# Altium footprint library LDO_Microchip_MCP1812AT-018TT_1V8.PcbLib: 3 footprints
Each footprint in its own frame and in the unit in brackets; x right, y up, seen from the top. Pads: shape width x height; smd on the part's side, far side on the other; paste and mask are expansions set on the pad; w line width, h text height; cw(c..) or ccw(c..) is an arc to the next point about the centre after c.
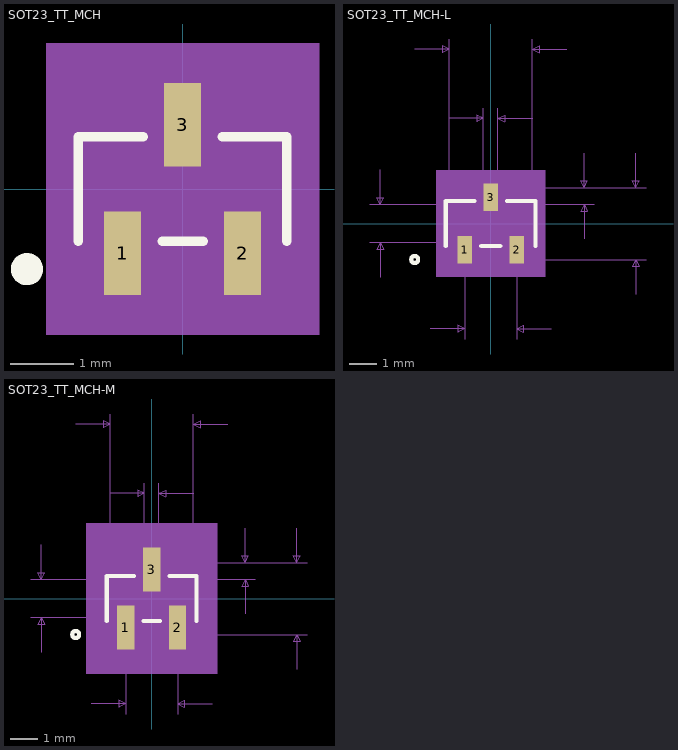
[diagram p0: the footprints below, top view; thin cyan lines are the x and y axes]

## SOT23_TT_MCH [mil]
pads (3):
  rect 23x52 smd paste+0 mask+0: 1(-37.4,-40) 2(37.4,-40) 3(0,40)
Top Overlay:
  circle w10: c-97,-50 r5
  lines w6: -65,-32.5 -65,32.5 -24.6,32.5 ; -12.8,-32.5 12.8,-32.5 ; 24.6,32.5 65,32.5 65,-32.5
Mechanical 5:
  region: -85,91 85,91 85,-91 -85,-91
Mechanical 13:
  circle w0: c-50,-17.5 r5
  lines w1: -60,-27.5 60,-27.5 60,27.5 -60,27.5 -60,-27.5 ; -47.9,-52 -47.9,-27.5 -26.9,-27.5 -26.9,-52 -47.9,-52 ; -10.5,27.5 10.5,27.5 10.5,52 -10.5,52 -10.5,27.5 ; 26.9,-52 26.9,-27.5 47.9,-27.5 47.9,-52 26.9,-52
Mechanical 15:
  region: -70,-37.5 -70,37.5 -21.5,37.5 -21.5,76 21.5,76 21.5,37.5 70,37.5 70,-37.5 58.9,-37.5 58.9,-76 -58.9,-76 -58.9,-37.5
  region: 60,-27.5 -60,-27.5 -60,27.5 60,27.5
  lines w6: -70,-37.5 -70,37.5 -21.5,37.5 -21.5,76 21.5,76 21.5,37.5 70,37.5 70,-37.5 58.9,-37.5 58.9,-76 -58.9,-76 -58.9,-37.5 -70,-37.5
3D body "SOT23_TT_MCH.step": height 44.09, standoff 0, extent -60,-52.01 60,52.01

## SOT23_TT_MCH-L [mil]
pads (3):
  rect 21x40 smd paste+0 mask+0: 1(-37.4,-38) 2(37.4,-38) 3(0,38)
Top Overlay:
  circle w6: c-110,-52 r5
  lines w6: -65,-32.5 -65,32.5 -23.6,32.5 ; -13.8,-32.5 13.8,-32.5 ; 23.6,32.5 65,32.5 65,-32.5
Mechanical 5:
  region: -79,77 79,77 79,-77 -79,-77
Mechanical 7:
  lines w1: -175,-27.5 0,-27.5 ; -175,27.5 0,27.5 ; -160,-77.5 -160,-27.5 ; -160,77.5 -160,27.5 ; -110,252 -60,252 ; -87.4,-152 -37.4,-152 ; -60.5,152 -10.5,152 ; -60,27.5 -60,267 ; -37.4,-167 -37.4,-52 ; -10.5,52 -10.5,167 ; 0,-52 225,-52 ; 0,28 150,28 ; 10.5,52 10.5,167 ; 37.4,-167 37.4,-52 ; 60,27.5 60,267 ; 60.5,152 10.5,152 ; 87.4,-152 37.4,-152 ; 110,252 60,252 ; 135,-22 135,28 ; 135,102 135,52 ; 150,52 0,52 225,52 ; 210,-102 210,-52 ; 210,102 210,52 ; -160,-27.5 -165,-37.5 -155,-37.5 -160,-27.5 ; -160,27.5 -165,37.5 -155,37.5 -160,27.5 ; -60,252 -70,257 -70,247 -60,252 ; -37.4,-152 -47.4,-147 -47.4,-157 -37.4,-152 ; -10.5,152 -20.5,157 -20.5,147 -10.5,152 ; 10.5,152 20.5,157 20.5,147 10.5,152 ; 37.4,-152 47.4,-147 47.4,-157 37.4,-152 ; 60,252 70,257 70,247 60,252 ; 135,28 130,18 140,18 135,28 ; 135,52 130,62 140,62 135,52 ; 210,-52 205,-62 215,-62 210,-52 ; 210,52 205,62 215,62 210,52
  text "Top Padstyle: RX21Y40D0T" at -300,-308 h50
  text "Bottom Padstyle: RX21Y40D0T" at -337.5,-383 h50
  text "Alt 1 Padstyle: OX60Y90D30P" at -337.5,-458 h50
  text "Alt 2 Padstyle: OX90Y60D30P" at -337.5,-533 h50
  text "0.104in/2.642mm" at 230,-12.5 h25
  text "0.024in/0.61mm" at 155,27.5 h25
  text "0.075in/1.9mm" at -81.25,-197 h25
  text "0.021in/0.533mm" at -93.75,172 h25
  text "0.12in/3.048mm" at -87.5,272 h25
  text "0.055in/1.397mm" at -367.5,-12.5 h25
Mechanical 13:
  circle w0: c-50,-17.5 r5
  lines w1: -60,-27.5 60,-27.5 60,27.5 -60,27.5 -60,-27.5 ; -47.9,-52 -47.9,-27.5 -26.9,-27.5 -26.9,-52 -47.9,-52 ; -10.5,27.5 10.5,27.5 10.5,52 -10.5,52 -10.5,27.5 ; 26.9,-52 26.9,-27.5 47.9,-27.5 47.9,-52 26.9,-52
Mechanical 15:
  region: -64,-31.5 -64,31.5 -14.5,31.5 -14.5,62 14.5,62 14.5,31.5 64,31.5 64,-31.5 51.9,-31.5 51.9,-62 -51.9,-62 -51.9,-31.5
  region: 60,-27.5 -60,-27.5 -60,27.5 60,27.5
  lines w6: -64,-31.5 -64,31.5 -14.5,31.5 -14.5,62 14.5,62 14.5,31.5 64,31.5 64,-31.5 51.9,-31.5 51.9,-62 -51.9,-62 -51.9,-31.5 -64,-31.5
3D body: height 10, standoff 0, extent 0,0 10,10

## SOT23_TT_MCH-M [mil]
pads (3):
  rect 25x64 smd paste+0 mask+0: 1(-37.4,-42) 2(37.4,-42) 3(0,42)
Top Overlay:
  circle w6: c-110,-52 r5
  lines w6: -65,-32.5 -65,32.5 -25.6,32.5 ; -11.8,-32.5 11.8,-32.5 ; 25.6,32.5 65,32.5 65,-32.5
Mechanical 5:
  region: -95,109 95,109 95,-109 -95,-109
Mechanical 7:
  lines w1: -175,-27.5 0,-27.5 ; -175,27.5 0,27.5 ; -160,-77.5 -160,-27.5 ; -160,77.5 -160,27.5 ; -110,252 -60,252 ; -87.4,-152 -37.4,-152 ; -60.5,152 -10.5,152 ; -60,27.5 -60,267 ; -37.4,-167 -37.4,-52 ; -10.5,52 -10.5,167 ; 0,-52 225,-52 ; 0,28 150,28 ; 10.5,52 10.5,167 ; 37.4,-167 37.4,-52 ; 60,27.5 60,267 ; 60.5,152 10.5,152 ; 87.4,-152 37.4,-152 ; 110,252 60,252 ; 135,-22 135,28 ; 135,102 135,52 ; 150,52 0,52 225,52 ; 210,-102 210,-52 ; 210,102 210,52 ; -160,-27.5 -165,-37.5 -155,-37.5 -160,-27.5 ; -160,27.5 -165,37.5 -155,37.5 -160,27.5 ; -60,252 -70,257 -70,247 -60,252 ; -37.4,-152 -47.4,-147 -47.4,-157 -37.4,-152 ; -10.5,152 -20.5,157 -20.5,147 -10.5,152 ; 10.5,152 20.5,157 20.5,147 10.5,152 ; 37.4,-152 47.4,-147 47.4,-157 37.4,-152 ; 60,252 70,257 70,247 60,252 ; 135,28 130,18 140,18 135,28 ; 135,52 130,62 140,62 135,52 ; 210,-52 205,-62 215,-62 210,-52 ; 210,52 205,62 215,62 210,52
  text "Top Padstyle: RX25Y64D0T" at -300,-324 h50
  text "Bottom Padstyle: RX25Y64D0T" at -337.5,-399 h50
  text "Alt 1 Padstyle: OX60Y90D30P" at -337.5,-474 h50
  text "Alt 2 Padstyle: OX90Y60D30P" at -337.5,-549 h50
  text "0.104in/2.642mm" at 230,-12.5 h25
  text "0.024in/0.61mm" at 155,27.5 h25
  text "0.075in/1.9mm" at -81.25,-197 h25
  text "0.021in/0.533mm" at -93.75,172 h25
  text "0.12in/3.048mm" at -87.5,272 h25
  text "0.055in/1.397mm" at -367.5,-12.5 h25
Mechanical 13:
  circle w0: c-50,-17.5 r5
  lines w1: -60,-27.5 60,-27.5 60,27.5 -60,27.5 -60,-27.5 ; -47.9,-52 -47.9,-27.5 -26.9,-27.5 -26.9,-52 -47.9,-52 ; -10.5,27.5 10.5,27.5 10.5,52 -10.5,52 -10.5,27.5 ; 26.9,-52 26.9,-27.5 47.9,-27.5 47.9,-52 26.9,-52
Mechanical 15:
  region: -80,-47.5 -80,47.5 -32.5,47.5 -32.5,94 32.5,94 32.5,47.5 80,47.5 80,-47.5 69.9,-47.5 69.9,-94 -69.9,-94 -69.9,-47.5
  region: 60,-27.5 -60,-27.5 -60,27.5 60,27.5
  lines w6: -80,-47.5 -80,47.5 -32.5,47.5 -32.5,94 32.5,94 32.5,47.5 80,47.5 80,-47.5 69.9,-47.5 69.9,-94 -69.9,-94 -69.9,-47.5 -80,-47.5
3D body: height 10, standoff 0, extent 0,0 10,10